# Altium footprint library DC.PcbLib: 1 footprints
Each footprint in its own frame and in the unit in brackets; x right, y up, seen from the top. Pads: shape width x height; smd on the part's side, far side on the other; paste and mask are expansions set on the pad; w line width, h text height; cw(c..) or ccw(c..) is an arc to the next point about the centre after c.
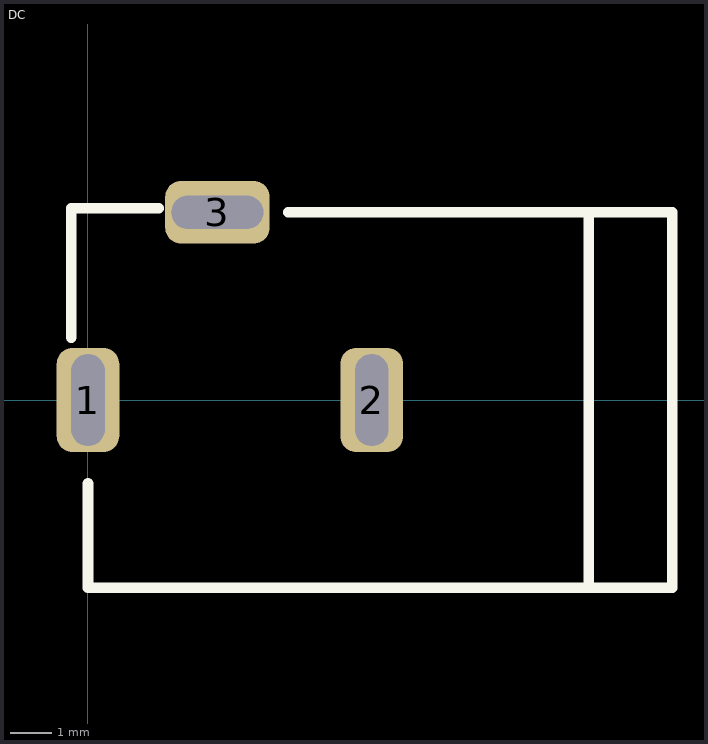
[diagram p0: the footprint, top view; thin cyan lines are the x and y axes]

## DC [mm]
pads (3):
  rrect50% 1.5x2.5 hole 0.8 slot 2.2 at 90 deg: 1(0,0) 2(6.8,0)
  rrect50% 2.5x1.5 hole 0.8 slot 2.2 at 0 deg: 3(3.1,4.5)
Top Overlay:
  lines w0.254: -0.4,1.5 -0.4,4.6 1.7,4.6 ; 0,-2 0,-4.5 14,-4.5 14,4.5 11.4,4.5 4.8,4.5 ; 12,-4.5 12,4.5